# Altium footprint library VariableResistors.PcbLib: 3 footprints
Each footprint in its own frame and in the unit in brackets; x right, y up, seen from the top. Pads: shape width x height; smd on the part's side, far side on the other; paste and mask are expansions set on the pad; w line width, h text height; cw(c..) or ccw(c..) is an arc to the next point about the centre after c.
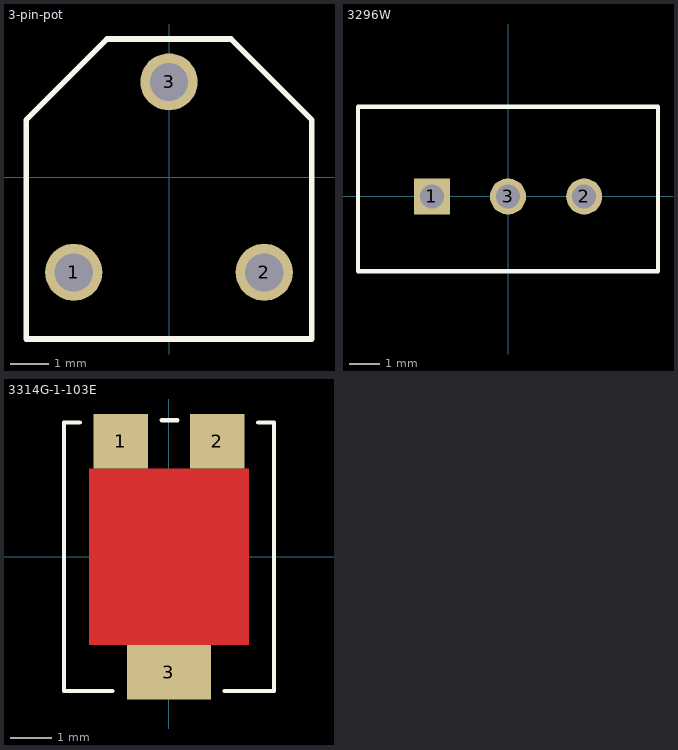
[diagram p0: the footprints below, top view; thin cyan lines are the x and y axes]

## 3-pin-pot [mm]
pads (3):
  round 1.5 hole 1: 1(-2.5,-2.5) 2(2.5,-2.5) 3(0,2.5)
Top Overlay:
  lines w0.15: -3.75,-4.25 3.75,-4.25 3.75,1.5 1.625,3.625 -1.625,3.625 -3.75,1.5 -3.75,-4.25
3D body "Potentiometer_Trim_THT.step": height 8.35, standoff -2.7, extent -3.25,-4.15 3.23,3.05

## 3296W [mm]
pads (3):
  rect 1.2x1.2 hole 0.8: 1(-2.54,0)
  round 1.2 hole 0.8: 2(2.54,0) 3(0,0)
Top Overlay:
  lines w0.15: -5,-2.5 -5,3 5,3 5,-2.5 -5,-2.5
3D body "Trimpot_3296.stp": height 12.04, standoff -5.91, extent -4.765,-2.13 4.765,2.7

## 3314G-1-103E [mm]
pads (3):
  rect 1.3x1.3 smd: 1(-1.15,2.75) 2(1.15,2.75)
  rect 2x1.3 smd: 3(0,-2.75)
Top Layer:
  pour cut-out: -1.9,2.1 1.9,2.1 1.9,-2.1 -1.9,-2.1
Top Overlay:
  lines w0.1: -2.125,3.2 -2.5,3.2 -2.5,-3.2 -1.35,-3.2 ; -0.175,3.25 0.2,3.25 ; 1.325,-3.2 2.5,-3.2 2.5,3.2 2.125,3.2
3D body "3314g-1-102e.stp": height 2.67, standoff -0.06, extent -2.547,-3.099 2.452,3.099